# Altium footprint library TO-220-3P.PcbLib: 1 footprints
Each footprint in its own frame and in the unit in brackets; x right, y up, seen from the top. Pads: shape width x height; smd on the part's side, far side on the other; paste and mask are expansions set on the pad; w line width, h text height; cw(c..) or ccw(c..) is an arc to the next point about the centre after c.
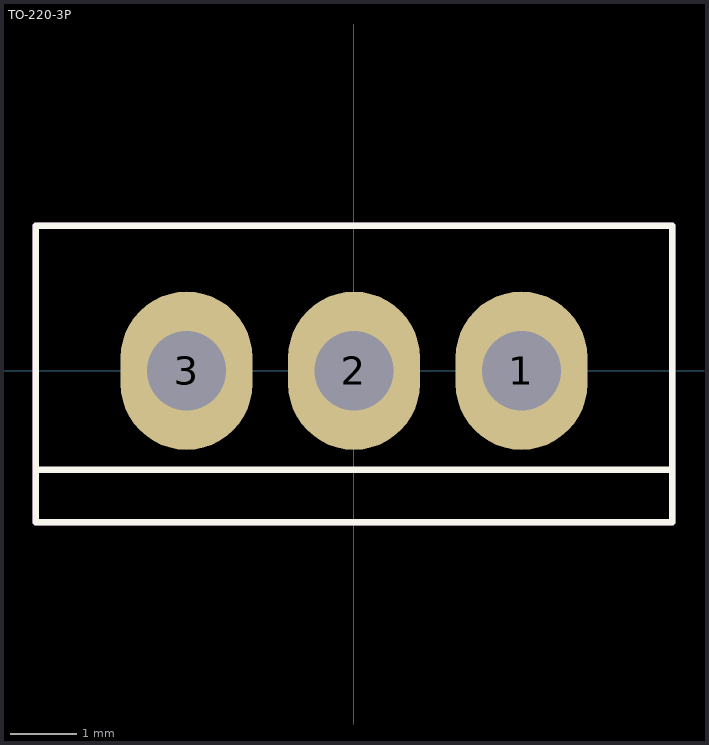
[diagram p0: the footprint, top view; thin cyan lines are the x and y axes]

## TO-220-3P [mm]
pads (3):
  oval 2x2.4 hole 1.2 unplated: 1(2.54,0) 2(0,0) 3(-2.54,0)
Top Overlay:
  lines w0.1: -4.826,2.2 -4.826,-1.5 4.826,-1.5 4.826,2.2 ; -4.826,2.2 4.826,2.2 ; -4.826,2.2 -4.826,-2.3 4.826,-2.3 4.826,2.2
Mechanical 13:
  lines w0.1: -4.826,-2.3 -4.826,2.2 4.826,2.2 4.826,-2.3 -4.826,-2.3
Mechanical 15:
  lines w0.1: -0.5,0 0.5,0 ; 0,-0.5 0,0.5 ; -4.826,-2.3 -4.826,2.2 4.826,2.2 4.826,-2.3 -4.826,-2.3
3D body "User Library-POWER MOSFET  NON-SURFACE-MOUNT.step": height 19.3, standoff -9.08, extent -4.826,-2.3 4.826,2.2